# EAGLE library part NX3008CBKV,115 (library PCA9615)
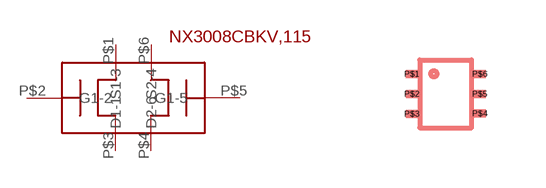
[diagram p1: symbol with the pads of NX3008CBKV,115; footprint NX3008CBKV,115]

Designator prefix -

## NX3008CBKV,115  [NX3008CBKV,115]
P$1  D1-1
P$2  G1-2
P$3  S1-3
P$4  S2-4
P$5  G1-5
P$6  D2-6

## Footprint NX3008CBKV,115 (pad centres in mm)
smd 0.31 x 0.2: P$1 -0.7,0.85; P$2 -0.7,0.35; P$3 -0.7,-0.15; P$4 1,-0.14; P$5 1,0.35; P$6 1,0.85